# Altium schematic symbol library AMC1301.SchLib: 1 symbol
Pins are listed as number, name and electrical type; pins without a type are passive.

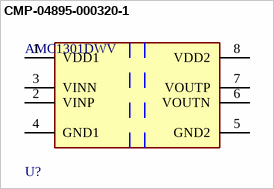
[diagram p0: symbol CMP-04895-000320-1]

## CMP-04895-000320-1
designator U?, comment AMC1301DWV
IC OPAMP ISOLATION 1 CIRC 8SOIC; Gain Bandwidth Product: 1MHz; Input Bias Current: 60uA; Number of Circuits: 1; Operating Supply Current: 5.9mA; Input Offset Voltage (Vos): 50uV; Output Current per Channel: 13mA; Packaging: Rail/Tube; RoHS Compliant: Yes; Lead Free: Lead Free; Case/Package: SOIC; Max Operating Temperature: 125°C; Min Operating Temperature: -40°C; Mount: Surface Mount
footprint FP-DWV0008A-IPC_A
footprint FP-DWV0008A-IPC_C
footprint FP-DWV0008A-IPC_B
footprint FP-DWV0008A-MFG
pins: 1 VDD1 (power), 2 VINP (hiz), 3 VINN (hiz), 4 GND1 (power), 5 GND2 (power), 6 VOUTN, 7 VOUTP, 8 VDD2 (power)